# Altium footprint library GRC PCB library.PcbLib: 166 footprints (part 2 of 11)
Each footprint in its own frame and in the unit in brackets; x right, y up, seen from the top. Pads: shape width x height; smd on the part's side, far side on the other; paste and mask are expansions set on the pad; w line width, h text height; cw(c..) or ccw(c..) is an arc to the next point about the centre after c.
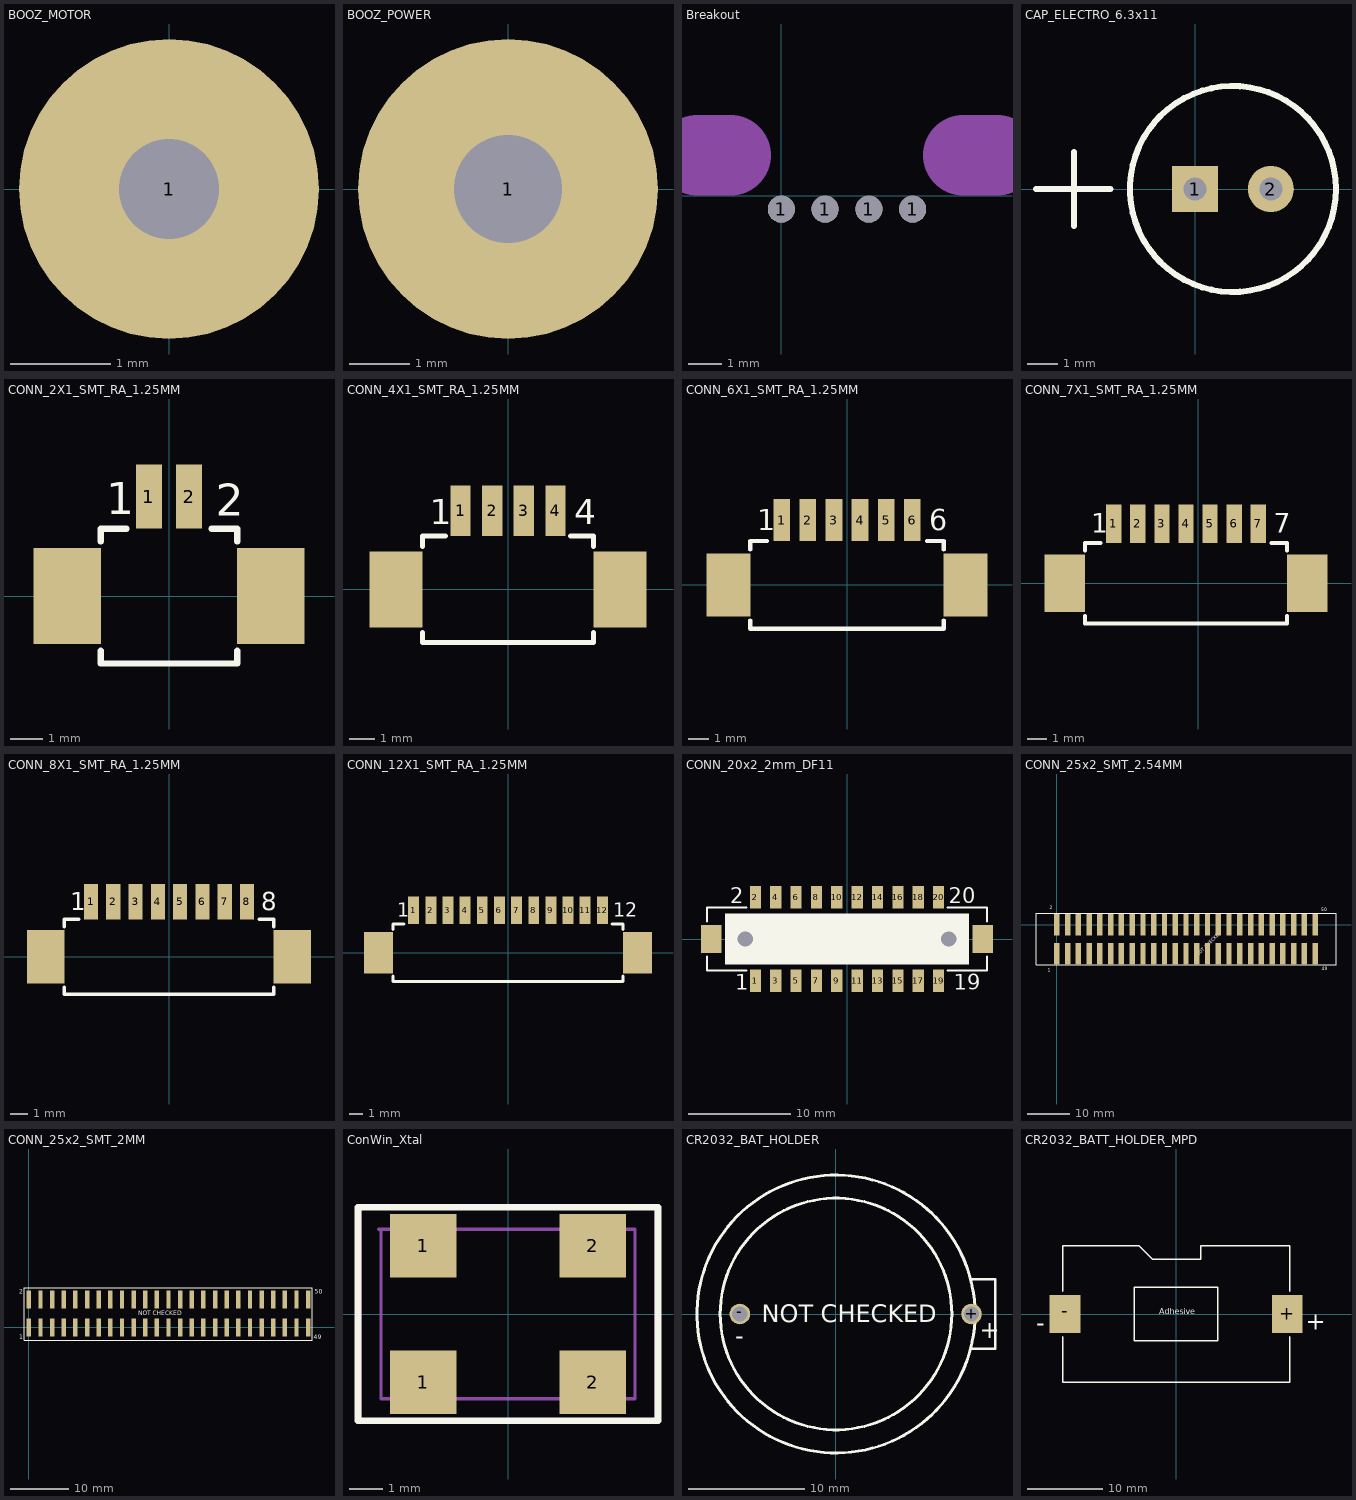
[diagram p1: the footprints below, top view; thin cyan lines are the x and y axes]

## BOOZ_MOTOR [mm] "Motor power pad for booz power board"
pads (1):
  round 3 hole 1: 1(0,0)

## BOOZ_POWER [mm] "power pad for booz power board"
pads (1):
  round 5 hole 1.8: 1(0,0)

## Breakout [mm] "Routing breakoff tab"
pads (4):
  round 0.8 hole 0.8 unplated: 1(0,-0.4) 1(1.3,-0.4) 1(2.6,-0.4) 1(3.9,-0.4)
Mechanical 1:
  lines w2.4: -2.5,1.2 -1.5,1.2 ; 5.4,1.2 6.4,1.2

## CAP_ELECTRO_6.3x11 [mil] "Electrolytic Capacitor D=6.3, L=11 (Minature Aluminium YXF)"
height 433.07
pads (2):
  rect 60x60 hole 30: 1(0,0)
  round 60 hole 30: 2(98.43,0)
Top Overlay:
  circle w7.87: c49.21,0 r133.86
  lines w7.87: -206.69,0 -110.24,0 ; -157.48,-48.23 -157.48,48.23

## CONN_2X1_SMT_RA_1.25MM [mm] "PicoBlade 5326 Series Header"
height 3.4
pads (4):
  rect 0.8x2 smd: 1(-0.625,3.1) 2(0.625,3.1)
  rect 2.1x3 smd: " "(3.175,0) ""(-3.175,0)
Top Overlay:
  lines w0.2: -2.125,-1.7 -2.125,-2.1 2.125,-2.1 2.125,-1.7 ; -2.125,1.7 -2.125,2.1 -1.325,2.1 ; 1.325,2.1 2.125,2.1 2.125,1.7
  text "1" at -1.95,2.55 h1
  text "2" at 1.45,2.5 h1

## CONN_4X1_SMT_RA_1.25MM [mm] "PicoBlade 5326 Series Header"
height 3.4
pads (6):
  rect 0.8x2 smd: 1(-1.875,3.1) 2(-0.625,3.1) 3(0.625,3.1) 4(1.875,3.1)
  rect 2.1x3 smd: " "(4.425,0) ""(-4.425,0)
Top Overlay:
  lines w0.2: -3.375,-1.7 -3.375,-2.1 3.375,-2.1 3.375,-1.7 ; -3.375,1.7 -3.375,2.1 -2.475,2.1 ; 2.475,2.1 3.375,2.1 3.375,1.7
  text "1" at -3.1,2.575 h1
  text "4" at 2.625,2.575 h1

## CONN_6X1_SMT_RA_1.25MM [mm] "PicoBlade 5326 Series Header"
height 3.4
pads (8):
  rect 0.8x2 smd: 1(-3.125,3.1) 2(-1.875,3.1) 3(-0.625,3.1) 4(0.625,3.1) 5(1.875,3.1) 6(3.125,3.1)
  rect 2.1x3 smd: " "(5.675,0) ""(-5.675,0)
Top Overlay:
  lines w0.2: -4.625,-1.7 -4.625,-2.1 4.625,-2.1 4.625,-1.7 ; -4.625,1.7 -4.625,2.1 -3.825,2.1 ; 3.825,2.1 4.625,2.1 4.625,1.7
  text "6" at 3.925,2.625 h1
  text "1" at -4.3,2.625 h1

## CONN_7X1_SMT_RA_1.25MM [mm] "PicoBlade 5326 Series Header"
height 3.4
pads (9):
  rect 0.8x2 smd: 1(-4.375,3.1) 2(-3.125,3.1) 3(-1.875,3.1) 4(-0.625,3.1) 5(0.625,3.1) 6(1.875,3.1) 7(3.125,3.1)
  rect 2.1x3 smd: " "(5.675,0) ""(-6.925,0)
Top Overlay:
  lines w0.2: -5.875,-1.7 -5.875,-2.1 4.625,-2.1 4.625,-1.7 ; -5.875,1.7 -5.875,2.1 -5.075,2.1 ; 3.825,2.1 4.625,2.1 4.625,1.7
  text "1" at -5.55,2.625 h1
  text "7" at 3.925,2.625 h1

## CONN_8X1_SMT_RA_1.25MM [mm] "PicoBlade 5326 Series Header"
height 3.4
pads (10):
  rect 0.8x2 smd: 1(-4.375,3.1) 2(-3.125,3.1) 3(-1.875,3.1) 4(-0.625,3.1) 5(0.625,3.1) 6(1.875,3.1) 7(3.125,3.1) 8(4.375,3.1)
  rect 2.1x3 smd: " "(6.925,0) ""(-6.925,0)
Top Overlay:
  lines w0.2: -5.875,-1.7 -5.875,-2.1 5.875,-2.1 5.875,-1.7 ; -5.875,1.7 -5.875,2.1 -5.075,2.1 ; 5.075,2.1 5.875,2.1 5.875,1.7
  text "1" at -5.55,2.625 h1
  text "8" at 5.175,2.625 h1

## CONN_12X1_SMT_RA_1.25MM [mm] "PicoBlade 5326 Series Header"
height 3.4
pads (14):
  rect 0.8x2 smd: 1(-6.875,3.1) 2(-5.625,3.1) 3(-4.375,3.1) 4(-3.125,3.1) 5(-1.875,3.1) 6(-0.625,3.1) 7(0.625,3.1) 8(1.875,3.1) 9(3.125,3.1) 10(4.375,3.1) 11(5.625,3.1) 12(6.875,3.1)
  rect 2.1x3 smd: " "(9.425,0) ""(-9.425,0)
Top Overlay:
  lines w0.2: -8.375,-1.7 -8.375,-2.1 8.375,-2.1 8.375,-1.7 ; -8.375,1.7 -8.375,2.1 -7.575,2.1 ; 7.575,2.1 8.375,2.1 8.375,1.7
  text "12" at 7.675,2.625 h1
  text "1" at -8.05,2.625 h1

## CONN_20x2_2mm_DF11 [mm] "Hirose DF11 series male header"
height 7.2
pads (24):
  rect 1.1x2.2 smd: 1(-9,-4.1) 2(-9,4.1) 3(-7,-4.1) 4(-7,4.1) 5(-5,-4.1) 6(-5,4.1) 7(-3,-4.1) 8(-3,4.1) 9(-1,-4.1) 10(-1,4.1) 11(1,-4.1) 12(1,4.1) 13(3,-4.1) 14(3,4.1) 15(5,-4.1) 16(5,4.1) 17(7,-4.1) 18(7,4.1) 19(9,-4.1) 20(9,4.1)
  rect 2x2.8 smd: " "(-13.35,0) " "(13.35,0)
  round 0 hole 1.5 unplated: " "(-10,0) " "(10,0)
Top Overlay:
  rectangle: -12,-2.5 12,2.5
  lines w0.2: -13.75,-1.7 -13.75,-3.1 -9.9,-3.1 ; -13.75,1.7 -13.75,3.1 -9.9,3.1 ; 9.9,-3.1 13.75,-3.1 13.75,-1.7 ; 9.9,3.1 13.75,3.1 13.75,1.7
  text "1" at -11,-5 h1.5
  text "19" at 10.5,-5 h1.5
  text "20" at 10,3.5 h1.5
  text "2" at -11.5,3.5 h1.5

## CONN_25x2_SMT_2.54MM [mil] "3M Connector SMT 2500 series 50pins 2 rows"
height 400
pads (50):
  rect 50x200 smd: 1(0,-270) 2(0,0) 3(100,-270) 4(100,0) 5(200,-270) 6(200,0) 7(300,-270) 8(300,0) 9(400,-270) 10(400,0) 11(500,-270) 12(500,0) 13(600,-270) 14(600,0) 15(700,-270) 16(700,0) 17(800,-270) 18(800,0) 19(900,-270) 20(900,0) 21(1000,-270) 22(1000,0) 23(1100,-270) 24(1100,0) 25(1200,-270) 26(1200,0) 27(1300,-270) 28(1300,0) 29(1400,-270) 30(1400,0) 31(1500,-270) 32(1500,0) 33(1600,-270) 34(1600,0) 35(1700,-270) 36(1700,0) 37(1800,-270) 38(1800,0) 39(1900,-270) 40(1900,0) 41(2000,-270) 42(2000,0) 43(2100,-270) 44(2100,0) 45(2200,-270) 46(2200,0) 47(2300,-270) 48(2300,0) 49(2400,-270) 50(2400,0)
Top Overlay:
  lines w7.87: -194,-374.02 2594,-374.02 2594,106.3 -194,106.3 -194,-374.02
  text "NOT CHECKED" at 1314.96,-299.21 h30
  text "1" at -82.68,-437.01 h30
  text "2" at -66.93,141.73 h30
  text "49" at 2460.63,-425.2 h30
  text "50" at 2456.69,125.98 h30

## CONN_25x2_SMT_2MM [mm] "3M Pin Strip Header 1512 series"
height 3.861
pads (50):
  rect 0.76x3.1 smd: 1(0,0) 2(0,4.77) 3(2,0) 4(2,4.77) 5(4,0) 6(4,4.77) 7(6,0) 8(6,4.77) 9(8,0) 10(8,4.77) 11(10,0) 12(10,4.77) 13(12,0) 14(12,4.77) 15(14,0) 16(14,4.77) 17(16,0) 18(16,4.77) 19(18,0) 20(18,4.77) 21(20,0) 22(20,4.77) 23(22,0) 24(22,4.77) 25(24,0) 26(24,4.77) 27(26,0) 28(26,4.77) 29(28,0) 30(28,4.77) 31(30,0) 32(30,4.77) 33(32,0) 34(32,4.77) 35(34,0) 36(34,4.77) 37(36,0) 38(36,4.77) 39(38,0) 40(38,4.77) 41(40,0) 42(40,4.77) 43(42,0) 44(42,4.77) 45(44,0) 46(44,4.77) 47(46,0) 48(46,4.77) 49(48,0) 50(48,4.77)
Top Overlay:
  lines w0.2: -0.8,-2.2 -0.8,0 -0.8,6.8 48.7,6.8 48.7,0 48.7,-2.2 -0.8,-2.2
  text "NOT CHECKED" at 18.8,2.1 h0.76
  text "1" at -1.7,-2 h0.76
  text "2" at -1.7,5.8 h0.76
  text "50" at 49.1,5.8 h0.76
  text "49" at 49,-2 h0.76

## ConWin_Xtal [mm] "ConWin Xtal FootPrint"
height 4
pads (4):
  rect 2x1.9 smd: 1(-2.54,-2.05) 1(-2.54,2.05) 2(2.54,-2.05) 2(2.54,2.05)
Top Overlay:
  lines w0.2: -4.5,-3.2 4.5,-3.2 4.5,3.2 -4.5,3.2 -4.5,-3.2
Mechanical 13:
  lines w0.1: -3.88,2.54 -3.81,2.511 -3.81,-2.54 3.81,-2.54 3.81,2.54 -3.88,2.54
Mechanical 15:
  lines w0.1: -4.45,-3.2 -4.45,3.2 4.45,3.2 4.45,-3.2 -4.45,-3.2
3D body: height 1.77, standoff 0, extent -3.88,-2.54 3.81,2.61

## CR2032_BAT_HOLDER [mil] "CR2032 or BR2032 20mm button battery holder"
height 295.28
pads (2):
  round 70 hole 52: +(460.63,0) -(-326.77,0)
Top Overlay:
  circle w10: c0,0 r472.44
  circle w10: c0,0 r393.7
  lines w7.87: 456.69,-118.11 541.34,-118.11 541.34,0 541.34,118.11 456.69,118.11
  text "-" at -342.52,-102.36 h59.06
  text "+" at 488.19,-82.68 h59.06
  text "NOT CHECKED" at -251.97,-27.56 h59.06

## CR2032_BATT_HOLDER_MPD [mil] "MPD BA Series 2032 Coin Cell holder"
height 263.78
pads (2):
  rect 160x200 smd: +(577,0) -(-577,0)
Top Overlay:
  lines w7.87: -590.55,-118.11 -590.55,-354.33 0,-354.33 590.55,-354.33 590.55,-118.11 ; -590.55,118.11 -590.55,354.33 ; 590.55,118.11 590.55,354.33 ; -590.55,354.33 -590.55,354.33 ; -590.55,354.33 -192.91,354.33 ; -192.91,354.33 -122.05,283.46 128.74,283.46 128.74,354.33 590.55,354.33 ; -192.91,354.33 -192.91,354.33 ; 590.55,354.33 590.55,354.33 ; -216.54,-137.8 -216.54,137.8 216.54,137.8 216.54,-137.8 -216.54,-137.8
  text "-" at -728.35,-122.05 h157.48
  text "+" at 673.23,-114.17 h157.48
  text "Adhesive" at -86.61,-11.81 h51.18